# Altium footprint library TSOP382.PcbLib: 1 footprints
Each footprint in its own frame and in the unit in brackets; x right, y up, seen from the top. Pads: shape width x height; smd on the part's side, far side on the other; paste and mask are expansions set on the pad; w line width, h text height; cw(c..) or ccw(c..) is an arc to the next point about the centre after c.
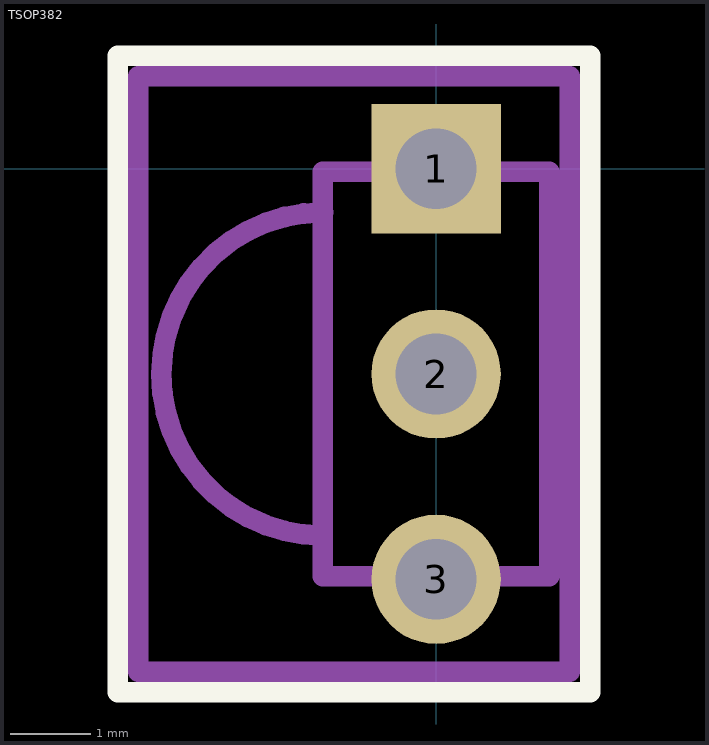
[diagram p0: the footprint, top view; thin cyan lines are the x and y axes]

## TSOP382 [mm]
pads (3):
  rect 1.6x1.6 hole 1: 1(0,0)
  round 1.6 hole 1: 2(0,-2.54) 3(0,-5.08)
Top Overlay:
  lines w0.254: -3.937,-6.477 1.905,-6.477 1.905,1.397 -3.937,1.397 -3.937,-6.477
Mechanical 1:
  lines w0.254: -1.4,-4.54 cw(c-1.4,-2.54) -1.397,-0.54 ; -1.4,-5.04 1.4,-5.04 1.4,-0.04 -1.4,-0.04 -1.4,-5.04
  text ".Designator" at -0.381,-5.588 h1.52
Mechanical 15:
  lines w0.254: -3.683,-6.223 1.651,-6.223 1.651,1.143 -3.683,1.143 -3.683,-6.223
3D body: height 8.55, standoff 4.55, extent -3.386,-4.537 0.603,-0.543
3D body: height 6.85, standoff 1.3, extent -3.4,-4.54 0.6,-0.54
3D body: height 8.55, standoff 1.3, extent -1.4,-5.04 1.4,-0.04